# EAGLE library part STEPPER-DRIVER (library mohamed-eagle)
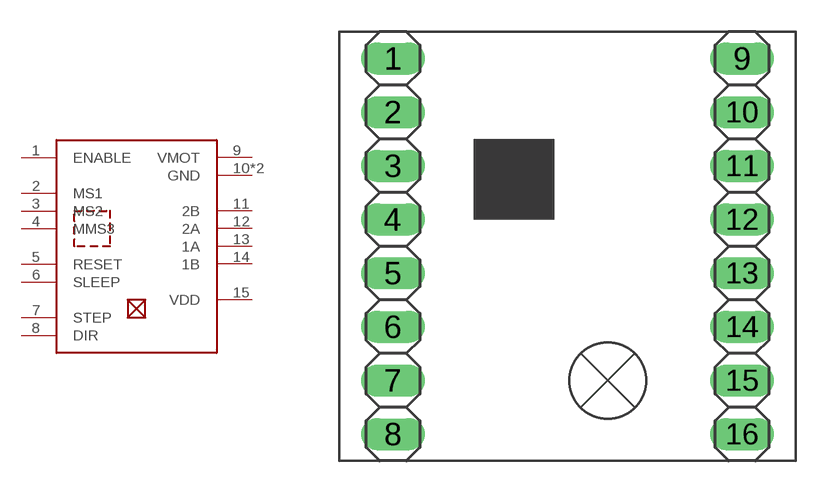
[diagram p0: symbol with the pads of A4988-DRIVER; footprint A4988-DRIVER]

Designator prefix -

## STEPPER-DRIVER  [A4988-DRIVER]
1  ENABLE
2  MS1
3  MS2
4  MMS3
5  RESET
6  SLEEP
7  STEP
8  DIR
9  VMOT
10  GND
11  2B
12  2A
13  1A
14  1B
15  VDD
16  GND

## Footprint A4988-DRIVER (pad centres in mm)
A4988-DRIVER
drill 1.016 long: 1 -7.62,8.89; 2 -7.62,6.35; 3 -7.62,3.81; 4 -7.62,1.27; 5 -7.62,-1.27; 6 -7.62,-3.81; 7 -7.62,-6.35; 8 -7.62,-8.89; 9 8.89,8.89; 10 8.89,6.35; 11 8.89,3.81; 12 8.89,1.27; 13 8.89,-1.27; 14 8.89,-3.81; 15 8.89,-6.35; 16 8.89,-8.89